# EAGLE library part 09651216702 (library custom_library)
D-Sub 9pin male straight, stamped, w/o board locks, 4-40UNC, PL2 Source: Datasheet <https://b2b.harting.com/files/download/PRD/PDF_DS/PDF_DS_09651216702_EN.pdf>
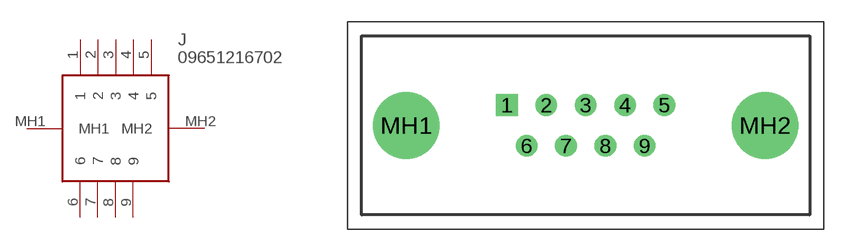
[diagram p12: symbol with the pads of 09651216702; footprint 09651216702]

Designator prefix J

## 09651216702-DB9-MALE (DESCRIPTION: D-Sub 9pin male straight, stamped, w/o board locks, 4-40UNC, PL2; HEIGHT: 12.4mm; MANUFACTURER_NAME: HARTING; MANUFACTURER_PART_NUMBER: 09651216702)  [09651216702]
1  1
2  2
3  3
4  4
5  5
6  6
7  7
8  8
9  9
MH1  MH1
MH2  MH2

## Footprint 09651216702 (pad centres in mm)
09651216702-1
drill 1 pad 1.5 square: 1 0,0
drill 1 pad 1.5: 2 2.74,0; 3 5.48,0; 4 8.22,0; 5 10.96,0; 6 1.37,-2.84; 7 4.11,-2.84; 8 6.85,-2.84; 9 9.59,-2.84
drill 3.1 pad 4.65: MH1 -7.02,-1.42; MH2 17.98,-1.42